# Altium schematic symbol library max.SchLib: 1 symbol
Pins are listed as number, name and electrical type; pins without a type are passive.

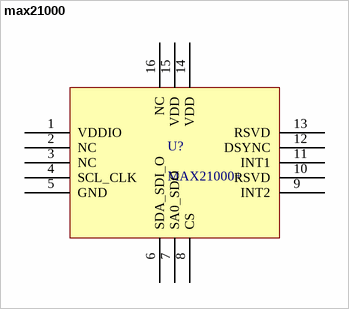
[diagram p0: symbol max21000]

## max21000
designator U?, comment MAX21000+
3-axis digital gyroscope
footprint PQFN50P300X300X100-16N (PQFN, 16-Leads, Body 3.00x3.00mm, Pitch 0.50mm, IPC Medium Density)
pins: 1 VDDIO, 2 NC, 3 NC, 4 SCL_CLK, 5 GND, 6 SDA_SDI_O, 7 SA0_SDO, 8 CS, 9 INT2, 10 RSVD, 11 INT1, 12 DSYNC, 13 RSVD, 14 VDD, 15 VDD, 16 NC